# Altium schematic symbol library USB2507.Schlib: 1 symbol
Pins are listed as number, name and electrical type; pins without a type are passive.

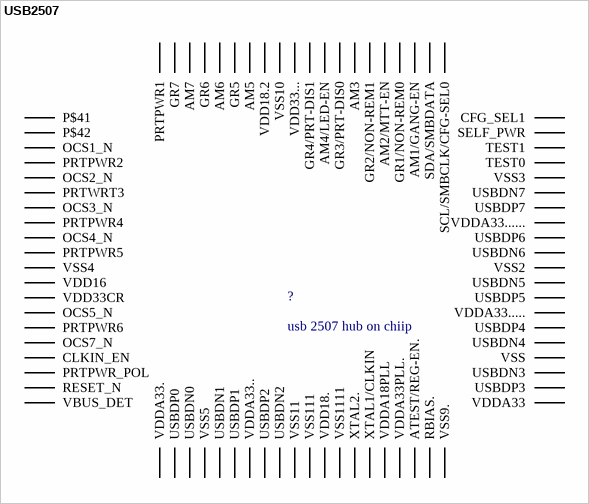
[diagram p0: symbol USB2507]

## USB2507
designator ?, comment usb 2507 hub on chiip
footprint TQFP80
footprint TQFP80
pins: AM1/GANG_EN AM1/GANG-EN, AM2/MTT_EN AM2/MTT-EN, AM3, AM4/LED_EN AM4/LED-EN, AM5, AM6, AM7, ATEST/REG_EN ATEST/REG-EN., CFG_SEL1, CLKIN_EN, GR1/NON_REM0 GR1/NON-REM0, GR2_NON_REM1 GR2/NON-REM1, GR3/PRT_DIS0 GR3/PRT-DIS0, GR4/PRT_DIS1 GR4/PRT-DIS1, GR5, GR6, GR7, OCS1_N P$41, OCS2_N OCS1_N, OCS3_N OCS2_N, OCS4_N OCS3_N, OCS5_N VDD16, OCS6_N OCS5_N, OCS7_N, PRTPWR1, PRTPWR2 P$42, PRTPWR3 PRTPWR2, PRTPWR4 PRTWRT3, PRTPWR5 PRTPWR4, PRTPWR6 VDD33CR, PRTPWR7 PRTPWR6, PRTPWR_POL, RBIAS RBIAS., RESET_N, SCL/SMBCLK/CFG_SEL0 SCL/SMBCLK/CFG-SEL0, SDA/SMBDATA, SELF_PWR, TEST0, TEST1, USBDN0, USBDN1, USBDN2, USBDN3, USBDN4, USBDN5, USBDN6, USBDN7, USBDP0, USBDP1, USBDP2, USBDP3, USBDP4, USBDP5, USBDP6, USBDP7, VBUS_DET, VDD18 VDD18.2, VDD18.2 PRTPWR5, VDD18.3 VDD18., VDD33 VDDA33, VDD33.3 VDD33..., VDD33CR VSS4, VDDA3.1 VDDA33.., VDDA18/PLL VDDA18PLL, VDDA33 VDDA33....., VDDA33.2 VDDA33......, VDDA33.4 VDDA33., VDDA33/PLL VDDA33PLL., VSS, VSS0 VSS9., VSS1 VSS2, VSS3, VSS4 VSS10, VSS5 OCS4_N, VSS6 VSS5, VSS7 VSS11, VSS8 VSS111, VSS9 VSS1111, XTAL1/CLKIN, XTAL2 XTAL2.